# EAGLE library part NRF8002 (library MAÑE)
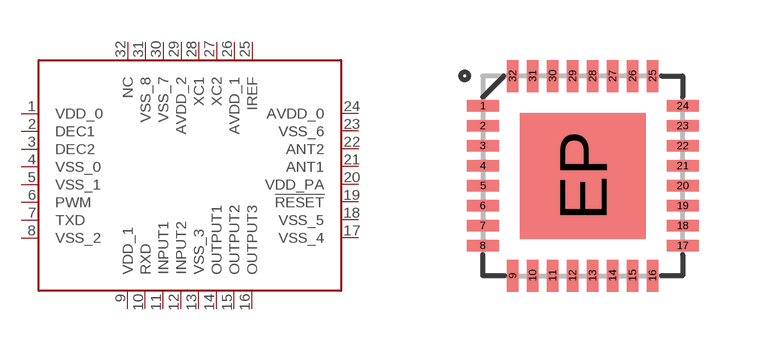
[diagram p15: symbol with the pads of QFN-32; footprint QFN-32]

Designator prefix -

## NRF8002  [QFN-32]
1  VDD_0
2  DEC1
3  DEC2
4  VSS_0
5  VSS_1
6  PWM
7  TXD
8  VSS_2
9  VDD_1
10  RXD
11  INPUT1
12  INPUT2
13  VSS_3
14  OUTPUT1
15  OUTPUT2
16  OUTPUT3
17  VSS_4
18  VSS_5
19  !RESET
20  VDD_PA
21  ANT1
22  ANT2
23  VSS_6
24  AVDD_0
25  IREF
26  AVDD_1
27  XC2
28  XC1
29  AVDD_2
30  VSS_7
31  VSS_8
32  NC

## Footprint QFN-32 (pad centres in mm)
smd 0.8 x 0.285: 1 -2.5,1.75; 2 -2.5,1.25; 3 -2.5,0.75; 4 -2.5,0.25; 5 -2.5,-0.25; 6 -2.5,-0.75; 7 -2.5,-1.25; 8 -2.5,-1.75; 17 2.5,-1.75; 18 2.5,-1.25; 19 2.5,-0.75; 20 2.5,-0.25; 21 2.5,0.25; 22 2.5,0.75; 23 2.5,1.25; 24 2.5,1.75
smd 0.285 x 0.8: 9 -1.75,-2.5; 10 -1.25,-2.5; 11 -0.75,-2.5; 12 -0.25,-2.5; 13 0.25,-2.5; 14 0.75,-2.5; 15 1.25,-2.5; 16 1.75,-2.5; 25 1.75,2.5; 26 1.25,2.5; 27 0.75,2.5; 28 0.25,2.5; 29 -0.25,2.5; 30 -0.75,2.5; 31 -1.25,2.5; 32 -1.75,2.5
smd 3.15 x 3.15: EP 0,0